# EAGLE library part DF11-6DP (library connectors)
Hirose DF11 6-pos Through Hole
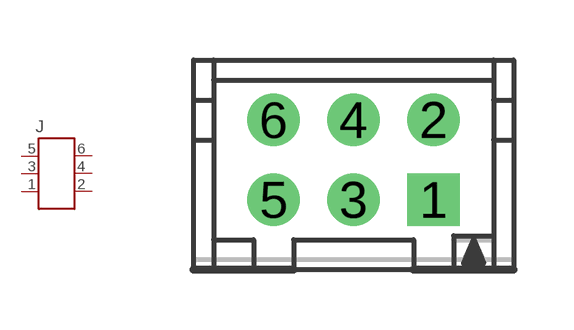
[diagram p0: symbol with the pads of DF11-6DP-2DSA; footprint DF11-6DP-2DSA]

Designator prefix J

## DF11-6DP-2DSA (MF: Hirose; REVIEWED: NO; TESTED: NO), DF11-6DP(01)-2DSA (MF: Hirose; MPN: DF11-6DP-2DSA(01); REVIEWED: NO; TESTED: NO)  [DF11-6DP-2DSA]
1  1
2  2
3  3
4  4
5  5
6  6

## Footprint DF11-6DP-2DSA (pad centres in mm)
Hirose DF11 6-Pos Vert Thru-Hole http://www.hirose.co.jp/cataloge_hp/2d/EDC3-080371-02.pdf
drill 0.8 square: 1 2,-1
drill 0.8: 2 2,1; 3 0,-1; 4 0,1; 5 -2,-1; 6 -2,1